# Altium footprint library SRR06044R7ML.PcbLib: 1 footprints
Each footprint in its own frame and in the unit in brackets; x right, y up, seen from the top. Pads: shape width x height; smd on the part's side, far side on the other; paste and mask are expansions set on the pad; w line width, h text height; cw(c..) or ccw(c..) is an arc to the next point about the centre after c.
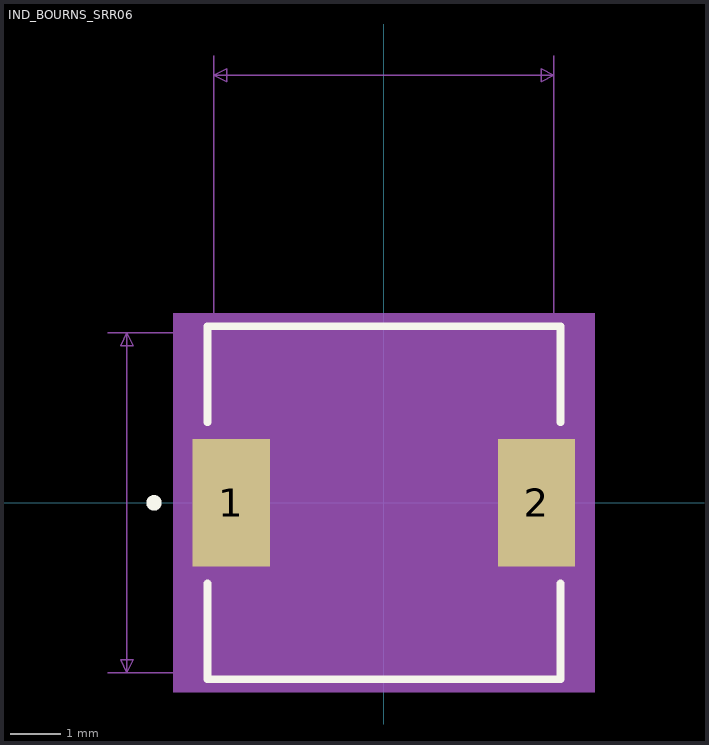
[diagram p0: the footprint, top view; thin cyan lines are the x and y axes]

## IND_BOURNS_SRR06 [mil]
pads (2):
  rect 60x99 smd: 1(-118.5,0) 2(118.5,0)
Top Overlay:
  circle w6: c-178.5,0 r3
  lines w6: -137,-62.6 -137,-137 137,-137 137,-62.6 ; -137,62.6 -137,137 137,137 137,62.6
Mechanical 5:
  region: 163.5,-147 -163.5,-147 -163.5,147 163.5,147
Mechanical 7:
  lines w1: -214.5,-132 142,-132 ; -214.5,132 142,132 ; -132,59.5 -132,347 ; 132,59.5 132,347 ; -199.5,-132 -199.5,132 ; -199.5,-132 -204.5,-122 -194.5,-122 -199.5,-132 ; -199.5,132 -204.5,122 -194.5,122 -199.5,132 ; -132,332 132,332 ; -132,332 -122,337 -122,327 -132,332 ; 132,332 122,337 122,327 132,332
  text "Default Pad Style: RX60Y99D0T" at -362.5,-342 h50
  text "Alt 1 Pad Style: OX60Y90D30P" at -350,-392 h50
  text "Alt 2 Pad Style: EX90Y60D30P" at -350,-442 h50
  text "0.264in/6.706mm" at -93.75,352 h25
  text "0.264in/6.706mm" at -407,-12.5 h25
Mechanical 13:
  circle w0: c-129,0 r3
  lines w1: -132,-132 132,-132 132,132 -132,132 -132,-132
Mechanical 15:
  region: -142,-59.5 -158.5,-59.5 -158.5,59.5 -142,59.5 -142,142 142,142 142,59.5 158.5,59.5 158.5,-59.5 142,-59.5 142,-142 -142,-142
  lines w6: -158.5,-59.5 -158.5,59.5 -142,59.5 -142,142 142,142 142,59.5 158.5,59.5 158.5,-59.5 142,-59.5 142,-142 -142,-142 -142,-59.5 -158.5,-59.5
3D body: height 10, standoff 0, extent 0,0 10,10